# Altium footprint library YoussifLIB.PcbLib: 17 footprints (part 1 of 2)
Each footprint in its own frame and in the unit in brackets; x right, y up, seen from the top. Pads: shape width x height; smd on the part's side, far side on the other; paste and mask are expansions set on the pad; w line width, h text height; cw(c..) or ccw(c..) is an arc to the next point about the centre after c.
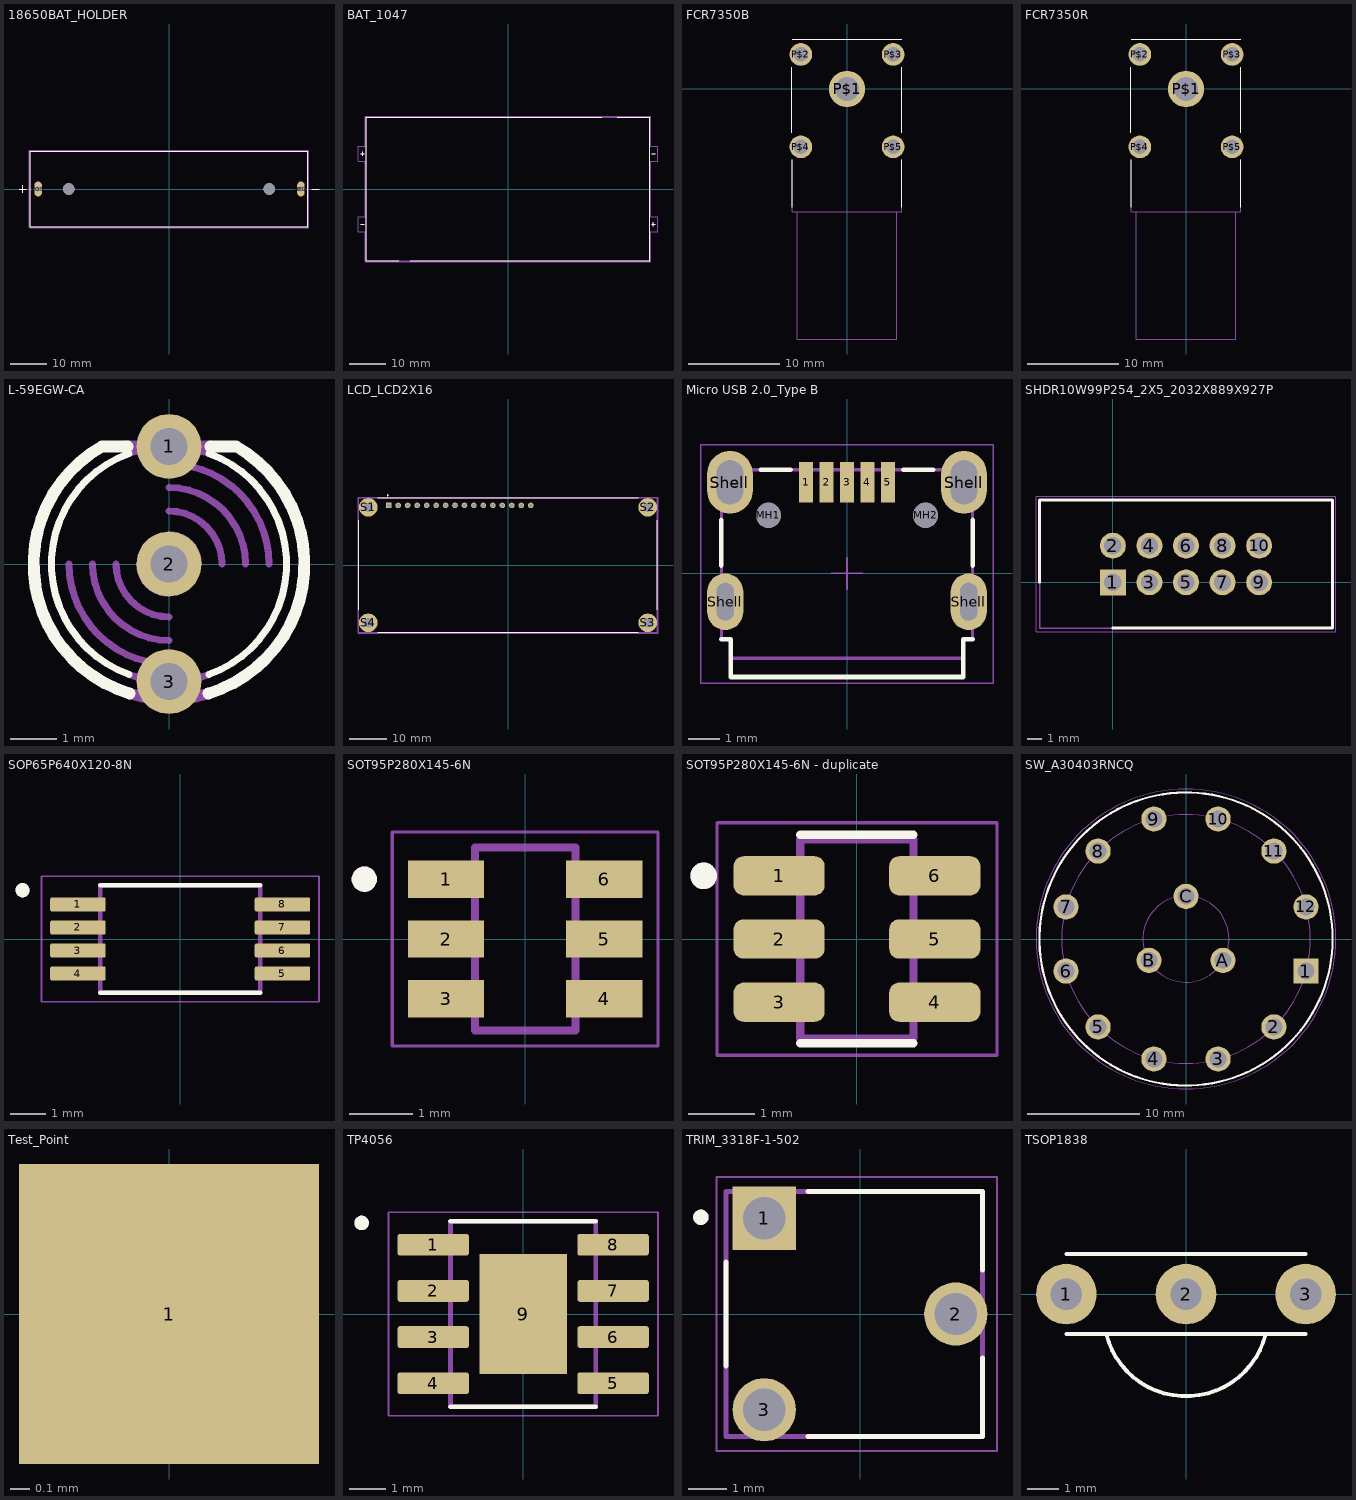
[diagram p0: the footprints below, top view; thin cyan lines are the x and y axes]

## 18650BAT_HOLDER [mm]
pads (4):
  oval 2.07x4.14 hole 1.38 square: NEG(36.6,0) POS(-36.3,0)
  round 3.2 hole 3.2 unplated: ""(-27.805,0) ""(27.81,0)
Top Overlay:
  lines w0.127: -41.63,0 -39.63,0 ; -40.63,-1 -40.63,1 ; 39.63,0 41.63,0 ; -38.48,-10.49 38.48,-10.49 38.48,10.49 -38.48,10.49 -38.48,-10.49
Mechanical 13:
  lines w0.127: -41.63,0 -39.63,0 ; -40.63,-1 -40.63,1 ; 39.63,0 41.63,0 ; -38.48,-10.49 38.48,-10.49 38.48,10.49 -38.48,10.49 -38.48,-10.49
Mechanical 15:
  lines w0.05: -38.73,-10.74 38.73,-10.74 38.73,10.74 -38.73,10.74 -38.73,-10.74
3D body "BK-18650-PC2--3DModel-STEP-56544.STEP": height 21.42, standoff -3.29, extent -38.48,-10.49 38.48,10.49

## BAT_1047 [mm]
height 15.1
Top Overlay:
  lines w0.127: -39.985,-9.565 -38.985,-9.565 ; -39.985,9.565 -38.985,9.565 ; -39.485,9.065 -39.485,10.065 ; -29.705,-19.45 -38.505,-19.45 -38.505,19.45 25.496,19.45 ; -26.496,-19.45 38.505,-19.45 38.505,19.45 29.705,19.45 ; 38.985,-9.565 39.985,-9.565 ; 38.985,9.565 39.985,9.565 ; 39.485,-10.065 39.485,-9.065
Mechanical 13:
  lines w0.127: -39.985,-9.565 -38.985,-9.565 ; -39.985,9.565 -38.985,9.565 ; -39.485,9.065 -39.485,10.065 ; 38.985,-9.565 39.985,-9.565 ; 38.985,9.565 39.985,9.565 ; 39.485,-10.065 39.485,-9.065 ; -38.505,-19.45 38.505,-19.45 38.505,19.45 -38.505,19.45 -38.505,-19.45
Mechanical 15:
  lines w0.05: -40.745,-11.593 -38.755,-11.593 -38.755,-19.7 38.755,-19.7 38.755,-11.593 40.745,-11.593 40.745,-7.537 38.755,-7.537 38.755,7.537 40.745,7.537 40.745,11.593 38.755,11.593 38.755,19.7 -38.755,19.7 -38.755,11.593 -40.745,11.593 -40.745,7.537 -38.755,7.537 -38.755,-7.537 -40.745,-7.537 -40.745,-11.593
3D body "step_temp.STEP": height 17.45, standoff -0.89, extent -40.515,-19.85 40.515,19.926

## FCR7350B [mm]
pads (5):
  round 4 hole 2.6: P$1(0,0)
  round 2.5 hole 1.6: P$2(-5.08,3.8) P$3(5.08,3.8) P$4(-5.08,-6.36) P$5(5.08,-6.36)
Top Overlay:
  lines w0.127: -6.1,-4.8 -6.1,2.4 ; -6,-13 -6,-7.8 ; -6,5.5 6,5.5 ; 6,-13 6,-7.8 ; 6,-4.8 6,2.4
Mechanical 13:
  lines w0.127: -6,-7.8 -6,-13.5 -5.5,-13.5 ; 6,-7.8 6,-13.5 5.5,-13.5 ; -5.5,-13.5 5.5,-13.5 ; -5.5,-13.5 -5.5,-27.5 5.5,-27.5 5.5,-13.5
3D body "step_temp.STEP": height 11.5, standoff -3.4, extent -6,-27.617 6,5.383

## FCR7350R [mm]
pads (5):
  round 4 hole 2.6: P$1(0,0)
  round 2.5 hole 1.6: P$2(-5.08,3.8) P$3(5.08,3.8) P$4(-5.08,-6.36) P$5(5.08,-6.36)
Top Overlay:
  lines w0.127: -6.1,-4.8 -6.1,2.4 ; -6,-13 -6,-7.8 ; -6,5.5 6,5.5 ; 6,-13 6,-7.8 ; 6,-4.8 6,2.4
Mechanical 13:
  lines w0.127: -6,-7.8 -6,-13.5 -5.5,-13.5 ; 6,-7.8 6,-13.5 5.5,-13.5 ; -5.5,-13.5 5.5,-13.5 ; -5.5,-13.5 -5.5,-27.5 5.5,-27.5 5.5,-13.5
3D body "step_temp.STEP": height 11.5, standoff -3.4, extent -6,-27.617 6,5.383

## L-59EGW-CA [mm]
pads (3):
  round 1.4 hole 0.8: 1(0,2.54) 2(0,0) 3(0,-2.54)
Top Overlay:
  lines w0.152: -0.868,-2.386 cw(c0,0) -0.868,2.386 ; 0.868,-2.386 ccw(c0,0) 0.868,2.386
  lines w0.254: -1.462,2.532 ccw(c0,0) -0.855,-2.796 ; -1.448,2.54 -0.889,2.54 ; 0.855,-2.797 ccw(c0,0) 1.462,2.533 ; 0.889,2.54 1.448,2.54
Mechanical 13:
  lines w0.152: -2.159,0 ccw(c0,0) 0,-2.159 ; -1.651,0 ccw(c0,0) 0,-1.651 ; -1.143,0 ccw(c0,0) 0,-1.143 ; -0.868,-2.386 ccw(c0,0) 0.868,-2.386 ; -0.868,2.386 cw(c0,0) 0.868,2.386 ; -0.635,0 ccw(c0,0) 0,-0.635 ; 0,0.635 cw(c0,0) 0.635,0 ; 0,1.143 cw(c0,0) 1.143,0 ; 0,1.651 cw(c0,0) 1.651,0 ; 0,2.159 cw(c0,0) 2.159,0
  lines w0.254: -0.94,2.54 0.889,2.54 ; -0.855,-2.797 ccw(c0,0) 0.855,-2.797

## LCD_LCD2X16 [mm]
pads (20):
  rect 1.508x1.508 hole 1: 1(-32,16)
  round 1.508 hole 1: 2(-29.46,16) 3(-26.92,16) 4(-24.38,16) 5(-21.84,16) 6(-19.3,16) 7(-16.76,16) 8(-14.22,16) 9(-11.68,16) 10(-9.14,16) 11(-6.6,16) 12(-4.06,16) 13(-1.52,16) 14(1.02,16) 15(3.56,16) 16(6.1,16)
  round 5 hole 2.5: S1(-37.5,15.5) S2(37.5,15.5) S3(37.5,-15.5) S4(-37.5,-15.5)
Top Overlay:
  circle w0.2: c-32.3,18.7 r0.1
  lines w0.127: -40,-12 -40,12 ; -35,-18 35,-18 ; -35,18 35,18 ; 40,-12 40,12
Mechanical 13:
  circle w0.2: c-32.3,18.7 r0.1
  lines w0.127: -40,-18 -40,18 40,18 40,-18 -40,-18
Mechanical 15:
  lines w0.05: -40.25,-18.25 40.25,-18.25 40.25,18.25 -40.25,18.25 -40.25,-18.25
3D body "LCD2X16--3DModel-STEP-56544.STEP": height 8.01, standoff -1.99, extent -40,-18 40,18

## Micro USB 2.0_Type B [mm] "Micro USB 2.0 SMT Type B Horizontal 5 Contacts High Current"
height 2.66
pads (11):
  rect 0.45x1.3 smd: 1(-1.3,2.9) 2(-0.65,2.9) 3(0,2.9) 4(0.65,2.9) 5(1.3,2.9)
  round 0.8 hole 0.8 unplated: MH1(-2.5,1.85) MH2(2.5,1.85)
  oval 1.15x1.8 hole 0.55 slot 1.2 at 90 deg: Shell(-3.875,-0.9) Shell(3.875,-0.9)
  oval 1.45x2 hole 0.85 slot 1.4 at 90 deg: Shell(-3.725,2.9) Shell(3.725,2.9)
Top Overlay:
  lines w0.15: -4,-2.1 -3.7,-2.1 -3.7,-3.3 3.7,-3.3 3.7,-2.1 4,-2.1 ; -4,0.25 -4,1.7 ; -2.75,3.3 -1.8,3.3 ; 1.8,3.3 2.75,3.3 ; 4,0.25 4,1.7
Top 3D Body:
  lines w0.1: -3.7,-2.7 3.7,-2.7 ; -4,-2.1 -3.7,-2.1 -3.7,-3.3 3.7,-3.3 3.7,-2.1 4,-2.1 4,3.3 -4,3.3 -4,-2.1
  text "PCB Edge" at -1.3,-3.3 h0.75
Top Courtyard:
  lines w0.05: -0.5,0 0.5,0 ; 0,-0.5 0,0.5 ; -4.65,-3.5 -4.65,4.1 4.65,4.1 4.65,-3.5 -4.65,-3.5
Top Designator:
  text ".Designator" at -0.625,-0.375 h0.75
Top Component Outline:
  lines w0.1: -4,-2.1 -4,3.3 4,3.3 4,-2.1 3.7,-2.1 3.7,-3.3 -3.7,-3.3 -3.7,-2.1 -4,-2.1
3D body "629105150521.stp": height 2.75, standoff -1.77, extent -4,-3.3 4,3.303

## SHDR10W99P254_2X5_2032X889X927P [mm]
pads (10):
  rect 1.8x1.8 hole 1.2: 1(0,0)
  round 1.8 hole 1.2: 2(0,2.54) 3(2.54,0) 4(2.54,2.54) 5(5.08,0) 6(5.08,2.54) 7(7.62,0) 8(7.62,2.54) 9(10.16,0) 10(10.16,2.54)
Top Overlay:
  lines w0.2: -5.08,0 -5.08,5.715 15.24,5.715 15.24,-3.175 0,-3.175
Mechanical 13:
  lines w0.1: -5.08,-3.175 -5.08,5.715 15.24,5.715 15.24,-3.175 -5.08,-3.175
Mechanical 15:
  lines w0.05: -5.33,-3.425 -5.33,5.965 15.49,5.965 15.49,-3.425 -5.33,-3.425
3D body "70246-1001.stp": height 9.27, standoff -3.43, extent -5.08,-3.175 15.24,5.715

## SOP65P640X120-8N [mm]
height 1.2
pads (8):
  rrect25% 1.56x0.4 smd: 1(-2.88,0.975) 2(-2.88,0.325) 3(-2.88,-0.325) 4(-2.88,-0.975) 5(2.88,-0.975) 6(2.88,-0.325) 7(2.88,0.325) 8(2.88,0.975)
Top Overlay:
  circle w0.2: c-4.44,1.375 r0.1
  lines w0.127: -2.25,-1.515 2.25,-1.515 ; -2.25,1.515 2.25,1.515
Mechanical 13:
  circle w0.2: c-4.44,1.375 r0.1
  lines w0.127: -2.25,-1.515 -2.25,1.515 2.25,1.515 2.25,-1.515 -2.25,-1.515
Mechanical 15:
  lines w0.05: -3.91,-1.765 -3.91,1.765 3.91,1.765 3.91,-1.765 -3.91,-1.765
3D body "step_temp.STEP": height 1.2, standoff 0, extent -3.2,-1.465 3.2,1.465

## SOT95P280X145-6N [mm]
height 1.45
pads (6):
  rect 1.21x0.59 smd: 1(-1.255,0.95) 2(-1.255,0) 3(-1.255,-0.95) 4(1.255,-0.95) 5(1.255,0) 6(1.255,0.95)
Top Overlay:
  circle w0.2: c-2.555,0.95 r0.1
Mechanical 13:
  circle w0.2: c-2.555,0.95 r0.1
  lines w0.127: -0.8,-1.45 -0.8,1.45 0.8,1.45 0.8,-1.45 -0.8,-1.45
Mechanical 15:
  lines w0.05: -2.11,-1.7 2.11,-1.7 2.11,1.7 -2.11,1.7 -2.11,-1.7
3D body "step_temp.STEP": height 1.45, standoff 0, extent -1.4,-1.45 1.4,1.45

## SOT95P280X145-6N - duplicate [mm]
height 1.45
pads (6):
  rrect50% 1.37x0.59 smd: 1(-1.17,0.95) 2(-1.17,0) 3(-1.17,-0.95) 4(1.17,-0.95) 5(1.17,0) 6(1.17,0.95)
Top Overlay:
  circle w0.2: c-2.305,0.95 r0.1
  lines w0.127: -0.85,-1.565 0.85,-1.565 ; -0.85,1.565 0.85,1.565
Mechanical 13:
  circle w0.2: c-2.305,0.95 r0.1
  lines w0.127: -0.85,-1.5 -0.85,1.5 0.85,1.5 0.85,-1.5 -0.85,-1.5
Mechanical 15:
  lines w0.05: -2.105,-1.75 -2.105,1.75 2.105,1.75 2.105,-1.75 -2.105,-1.75
3D body "step_temp.STEP": height 1.45, standoff 0, extent -1.4,-1.45 1.4,1.45

## SW_A30403RNCQ [mm]
pads (15):
  rect 2.25x2.25 hole 1.5: 1(10.72,-2.87)
  round 2.25 hole 1.5: 2(7.85,-7.85) 3(2.87,-10.72) 4(-2.87,-10.72) 5(-7.85,-7.85) 6(-10.72,-2.87) 7(-10.72,2.87) 8(-7.85,7.85) 9(-2.87,10.72) 10(2.87,10.72) 11(7.85,7.85) 12(10.72,2.87) A(3.302,-1.905) B(-3.302,-1.905) C(0,3.81)
Top Overlay:
  circle w0.2: c0,0 r13.095
Mechanical 13:
  circle w0.001: c0,0 r3.85
  circle w0.01: c0,0 r11.1
Mechanical 15:
  circle w0.05: c0,0 r13.4
3D body "KC34A30.001NLS--3DModel-STEP-520916.STEP": height 39, standoff -8.3, extent -13,-12.981 13,12.999

## Test_Point [mil]
pads (1):
  rect 60x60 smd: 1(0,0)

## TP4056 [mm]
height 1.75
pads (9):
  rrect25% 1.97x0.6 smd: 1(-2.475,1.905) 2(-2.475,0.635) 3(-2.475,-0.635) 4(-2.475,-1.905) 5(2.475,-1.905) 6(2.475,-0.635) 7(2.475,0.635) 8(2.475,1.905)
  rect 2.413x3.302 smd paste-3: 9(0,0)
Top Overlay:
  circle w0.2: c-4.445,2.505 r0.1
  lines w0.127: -2,-2.55 2,-2.55 ; -2,2.55 2,2.55
Top Paste:
  region: 0.645,-0.82 -0.645,-0.82 -0.645,0.82 0.645,0.82
Mechanical 13:
  circle w0.2: c-4.445,2.505 r0.1
  lines w0.127: -2,-2.55 -2,2.55 2,2.55 2,-2.55 -2,-2.55
Mechanical 15:
  lines w0.05: -3.71,-2.8 -3.71,2.8 3.71,2.8 3.71,-2.8 -3.71,-2.8
3D body "step_temp.STEP": height 1.75, standoff 0, extent -3,-2.45 3,2.45

## TRIM_3318F-1-502 [mm]
height 6.6
pads (3):
  rect 1.65x1.65 / inner round 1.65 / far side rect 1.65x1.65 hole 1.1: 1(-2.5,2.5)
  round 1.65 hole 1.1: 2(2.5,0) 3(-2.5,-2.5)
Top Overlay:
  circle w0.2: c-4.155,2.525 r0.1
  lines w0.127: -3.5,-1.355 -3.5,1.355 ; -1.355,-3.2 3.2,-3.2 3.2,-1.145 ; -1.355,3.2 3.2,3.2 3.2,1.145
Mechanical 13:
  circle w0.2: c-4.155,2.525 r0.1
  lines w0.127: -3.5,-3.2 -3.5,3.2 3.2,3.2 3.2,-3.2 -3.5,-3.2
Mechanical 15:
  lines w0.05: -3.75,-3.575 -3.75,3.575 3.575,3.575 3.575,-3.575 -3.75,-3.575
3D body "EVN-D8AA03B55.STEP": height 6.4, standoff -3.95, extent -3.777,-3.225 3.523,3.175

## TSOP1838 [mil]
pads (3):
  round 76 hole 39.37: 1(-150,0) 2(0,0) 3(150,0)
Top Overlay:
  lines w5: -150,-50 -100,-50 100,-50 150,-50 ; -150,50 150,50 ; -100.02,-49.94 ccw(c0,-25) 100.02,-49.94
3D body "step_temp.STEP": height 403.54, standoff -816.93, extent -118.11,-158.86 118.11,61.02